# EAGLE library part IL300 (library il300)
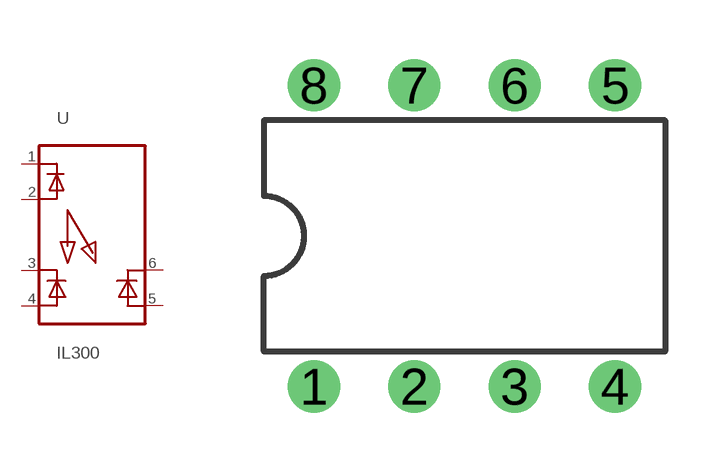
[diagram p0: symbol with the pads of DIL08; footprint DIL08]

Designator prefix -

## IL300  [DIL08]
1  P$1  pas
2  P$2  pas
3  P$3  pas
4  P$4  pas
5  P$6  pas
6  P$5  pas

## Footprint DIL08 (pad centres in mm)
Dual In Line Package
drill 0.813 pad 1.27: 1 -3.81,-3.81; 2 -1.27,-3.81; 3 1.27,-3.81; 4 3.81,-3.81; 5 3.81,3.81; 6 1.27,3.81; 7 -1.27,3.81; 8 -3.81,3.81